# Altium footprint library BTS428L2.PcbLib: 3 footprints
Each footprint in its own frame and in the unit in brackets; x right, y up, seen from the top. Pads: shape width x height; smd on the part's side, far side on the other; paste and mask are expansions set on the pad; w line width, h text height; cw(c..) or ccw(c..) is an arc to the next point about the centre after c.
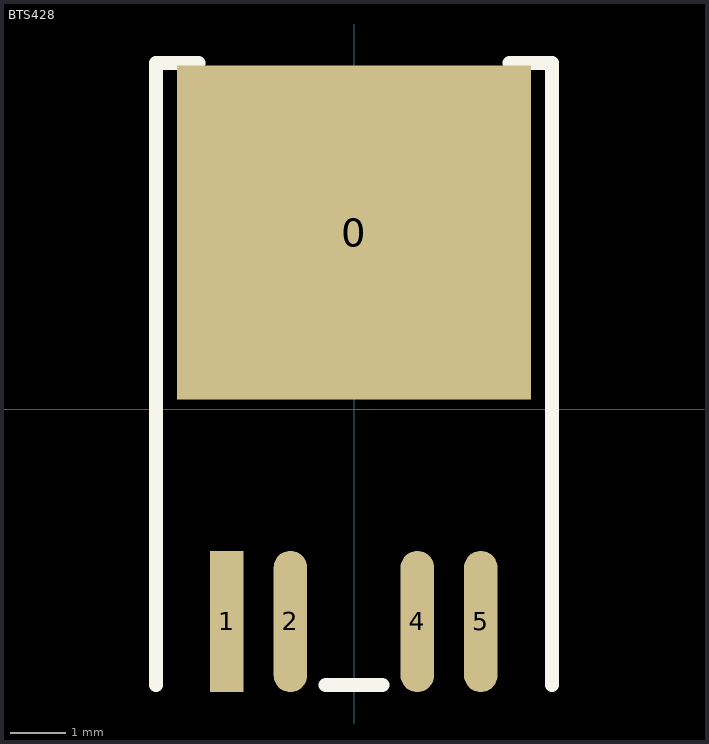
[diagram p0: the footprints below, top view; thin cyan lines are the x and y axes]

## BTS428 [mm]
pads (5):
  rect 6.35x6 smd: 0(0,3.175)
  rect 0.6x2.54 smd: 1(-2.283,-3.81)
  oval 0.6x2.54 smd: 2(-1.143,-3.81) 4(1.137,-3.81) 5(2.277,-3.81)
Top Overlay:
  lines w0.254: -3.556,-4.953 -3.556,6.223 -2.794,6.223 ; -0.508,-4.953 0.508,-4.953 ; 2.794,6.223 3.556,6.223 3.556,-4.953

## PCBComponent_1 [mil]

## PCBComponent_1 - duplicate [mil]